# Altium schematic symbol library M20-9990345.SchLib: 1 symbol
Pins are listed as number, name and electrical type; pins without a type are passive.

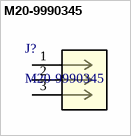
[diagram p0: symbol M20-9990345]

## M20-9990345
designator J?
SIL VERTICAL PC TAIL PIN HEADER; Manufacturer_Name: Harwin; Copyright: Copyright (C) 2026 Ultra Librarian. All rights reserved.; Manufacturer_Part_Number: M20-9990345; RefDes: RefDes; Type: Type
footprint CONN_M20-99903XX_HRW
pins: 1, 2, 3